# EAGLE library part TPS2114A (library toyotune)
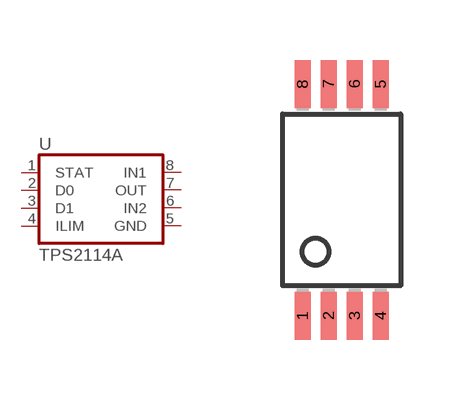
[diagram p15: symbol with the pads of PW_R-PDSO-G08; footprint PW_R-PDSO-G08]

Designator prefix -

## TPS2114APW  [PW_R-PDSO-G08]
1  STAT  out
2  D0  in
3  D1  in
4  ILIM
5  GND  pwr
6  IN2  pwr
7  OUT  sup
8  IN1  pwr

## Footprint PW_R-PDSO-G08 (pad centres in mm)
PLASTIC SMALL-OUTLINE PACKAGE, SO 8 JEDEC MO-153, PW Type Source: www.ti.com/.. slvs087l.pdf
smd 0.4 x 1.2: 1 -0.975,-2.9; 2 -0.325,-2.9; 3 0.325,-2.9; 4 0.975,-2.9; 5 0.975,2.9; 6 0.325,2.9; 7 -0.325,2.9; 8 -0.975,2.9